# Altium integrated library KY-040.IntLib: 1 symbol
Pins are listed as number, name and electrical type; pins without a type are passive.

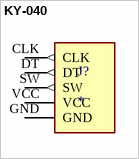
[diagram p0: symbol KY-040]

## KY-040
designator J?
KY-5.0-4P Green(RAL6018/T) ; CONTACT WITH TIN PLATED MARK; MP: KY-040; MF: Joy-IT; Package: Package; Availability: Not in stock; Value: *; SnapEDA_Link: https://www.snapeda.com/parts/KY-040/Joy-IT/view-part/?ref=snap; Price: None; Check_prices: https://www.snapeda.com/parts/KY-040/Joy-IT/view-part/?ref=eda
footprint KY-040-PORT
pins: CLK (out), DT (out), GND (power), SW (out), VCC (power)